# EAGLE library part NCP1422MNR2G (library Egna komponenter)
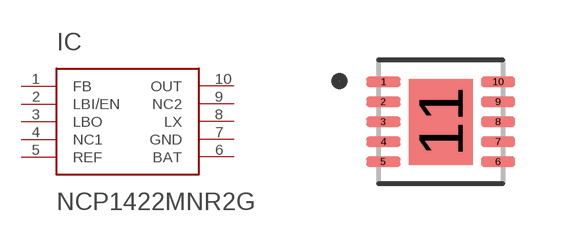
[diagram p11: symbol with the pads of SON50P300X300X100-11N; footprint SON50P300X300X100-11N]

Designator prefix IC

## NCP1422MNR2G  [SON50P300X300X100-11N]
1  FB
2  LBI/EN
3  LBO
4  NC1
5  REF
6  BAT
7  GND
8  LX
9  NC2
10  OUT

## Footprint SON50P300X300X100-11N (pad centres in mm)
smd 0.86 x 0.26: 1 -1.435,1; 2 -1.435,0.5; 3 -1.435,0; 4 -1.435,-0.5; 5 -1.435,-1; 6 1.435,-1; 7 1.435,-0.5; 8 1.435,0; 9 1.435,0.5; 10 1.435,1
smd 1.6 x 2.15: 11 0,0